# Altium footprint library Sensors.PcbLib: 11 footprints
Each footprint in its own frame and in the unit in brackets; x right, y up, seen from the top. Pads: shape width x height; smd on the part's side, far side on the other; paste and mask are expansions set on the pad; w line width, h text height; cw(c..) or ccw(c..) is an arc to the next point about the centre after c.
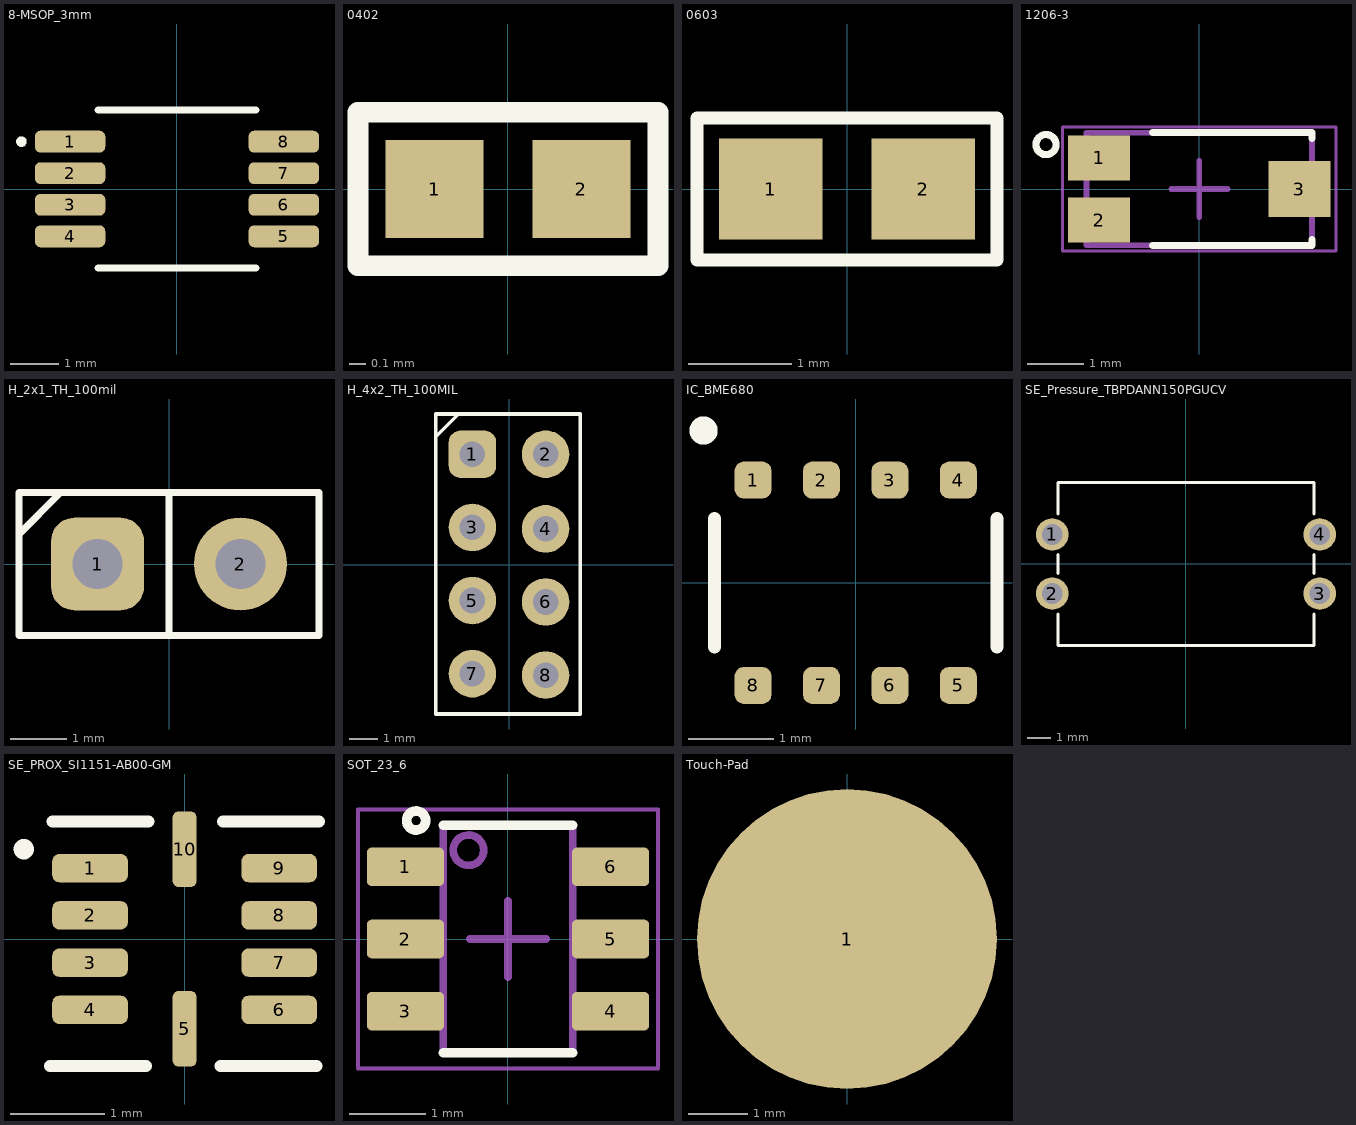
[diagram p0: the footprints below, top view; thin cyan lines are the x and y axes]

## 8-MSOP_3mm [mm] "/20230822/J-A.Sepulveda"
pads (8):
  rrect50% 1.45x0.45 smd: 1(-2.2,0.975) 2(-2.2,0.325) 3(-2.2,-0.325) 4(-2.2,-0.975) 5(2.2,-0.975) 6(2.2,-0.325) 7(2.2,0.325) 8(2.2,0.975)
Top Overlay:
  circle w0.114: c-3.2,0.975 r0.051
  lines w0.152: -1.626,-1.626 1.626,-1.626 ; -1.626,1.626 1.626,1.626
3D body "MSOP8_MC_MCH.step": height 1.09, standoff 0, extent -2.451,-1.499 2.451,1.499

## 0402 [mm] "1005 Metric / 20190729/ J-P.Vargas.A"
pads (2):
  rect 0.6x0.6 smd: 1(-0.45,0) 2(0.45,0)
Top Overlay:
  lines w0.127: -0.92,-0.47 -0.92,-0.47 ; -0.92,-0.47 0.92,-0.47 0.92,0.47 -0.92,0.47 -0.92,-0.47
3D body: height 0.55, standoff 0, extent -0.5,-0.25 0.5,0.25

## 0603 [mm] "20220719 / E.Naranjo"
pads (2):
  rect 1x0.97 smd: 1(-0.735,0) 2(0.735,0)
Top Overlay:
  lines w0.127: -1.448,-0.686 1.446,-0.686 1.446,0.686 -1.448,0.686 -1.448,-0.686
3D body "step_temp.STEP": height 0.95, standoff 0, extent -0.8,-0.4 0.8,0.4

## 1206-3 [mm] "3216 metric, SMD, 3-Leads, Body 4x2mm / 20210709 / H-D.Garcia"
pads (3):
  rect 1.1x0.8 smd: 1(-1.775,0.55) 2(-1.775,-0.55)
  rect 1.1x1 smd: 3(1.775,0)
Top Overlay:
  circle w0.127: c-2.718,0.787 r0.178
  lines w0.127: -0.828,-1 2,-1 2,-0.9 ; -0.828,1 2,1 2,0.9
Mechanical 1:
  lines w0.1: -2,-1 2,-1 2,1 -2,1 -2,-1
Mechanical 15:
  lines w0.05: -2.425,-1.1 -2.425,1.1 2.425,1.1 2.425,-1.1 -2.425,-1.1
  lines w0.1: -0.5,0 0.5,0 ; 0,-0.5 0,0.5
3D body: height 0.45, standoff 0, extent -2,-1 2,1
3D body: height 1.05, standoff 0.45, extent -1.2,-1 1.2,1

## H_2x1_TH_100mil [mil] "/ 20190401 / M-X.Arias"
pads (2):
  rrect50% 65x65 hole 35: 1(-50,0)
  round 65 hole 35: 2(50,0)
Top Overlay:
  lines w5: -105,20.87 -75.87,50 ; 0,-50 0,50 ; -105,-50 105,-50 105,50 -105,50 -105,-50

## H_4x2_TH_100MIL [mil] "/ 20210215 / M-C.Calderon"
pads (8):
  rrect50% 65x65 hole 35: 1(-50,150.98)
  round 65 hole 35: 2(50,150.98) 3(-50,50.98) 4(50,49.02) 5(-50,-49.02) 6(50,-50.98) 7(-50,-149.02) 8(50,-150.98)
Top Overlay:
  lines w5: -100,175 -70.08,204.92 ; -100,-204.13 -100,205.98 97.24,205.98 97.24,-204.13 -100,-204.13

## IC_BME680 [mil] "20220516 / E.Naranjo"
pads (8):
  rrect50% 17x17 smd: 1(-47.21,47.24) 2(-15.75,47.21) 3(15.75,47.21) 4(47.21,47.24) 5(47.21,-47.24) 6(15.75,-47.21) 7(-15.75,-47.21) 8(-47.21,-47.24)
Top Overlay:
  circle w7: c-70,70 r3
  lines w6: -65,-29.51 -65,29.51 ; 65,-29.51 65,29.51
3D body "LGA8_BME680_BOS.step": height 39.49, standoff 0, extent -60,-60 60,60

## SE_Pressure_TBPDANN150PGUCV [mil] "/ 20201223 / J-E.Pachon"
pads (4):
  round 55 hole 35: 1(-226.38,50) 2(-226.38,-50) 3(226.38,-50) 4(226.38,50)
Top Overlay:
  lines w5: -216.54,-85 -216.54,-137.8 216.54,-137.8 216.54,-85 ; -216.54,-15.75 -216.54,15.75 ; -216.54,85 -216.54,137.8 216.54,137.8 216.54,85 ; 216.54,-15.75 216.54,15.75
3D body: height 39.37, standoff 0, extent -217,-138 217,138

## SE_PROX_SI1151-AB00-GM [mm] "20220517 / E.Naranjo"
pads (10):
  rrect50% 0.8x0.3 smd: 1(-1.001,0.75) 2(-1.001,0.25) 3(-1.001,-0.25) 4(-1.001,-0.75) 6(1.001,-0.75) 7(1.001,-0.25) 8(1.001,0.25) 9(1.001,0.75)
  rrect50% 0.254x0.8 smd: 5(0,-0.95) 10(0,0.95)
Top Overlay:
  circle w0.114: c-1.702,0.95 r0.051
  lines w0.127: -1.422,-1.346 -0.406,-1.346 ; -1.397,1.245 -0.381,1.245 ; 0.381,-1.346 1.397,-1.346 ; 0.406,1.245 1.422,1.245
3D body "Si1151-AB00-GM.stp": height 0.75, standoff 0, extent -1.045,-1.03 1.055,1.07

## SOT_23_6 [mil] "SC-74,SOT-457 / 20220809 / C-E.Rincon"
height 57.09
pads (6):
  rrect25% 40x20 smd: 1(-53.15,37.4) 2(-53.15,0) 3(-53.15,-37.4) 4(53.15,-37.4) 5(53.15,0) 6(53.15,37.4)
Top Overlay:
  circle w5: c-47.64,61.42 r4.92
  lines w5: -33.46,-59.06 33.46,-59.06 ; -33.46,59.06 33.46,59.06
Mechanical 1:
  circle w3.94: c-20.48,46.06 r7.87
  lines w3.94: -33.46,-59.06 33.46,-59.06 33.46,59.06 -33.46,59.06 -33.46,-59.06
Mechanical 15:
  lines w1.97: -77.76,-67.13 77.76,-67.13 77.76,67.13 -77.76,67.13 -77.76,-67.13
  lines w3.94: -19.68,0 19.68,0 ; 0,-19.68 0,19.69
3D body "DDC0006A.stp": height 35.39, standoff -0.79, extent -56.45,-58.46 56.45,58.47

## Touch-Pad [mm] "/20240319/J.Jaramillo"
pads (1):
  round 5.08 smd: 1(0,0)